# EAGLE library part 690368192272 (library Wurth_Connectors_WR-MM)
WR-MM Female Angled Connector with Latch & w. Polarization KIND PROPERTIES: Pitch 2.54 mm Gender:Female MATERIAL PROPERTIES: Insulator Material:PBT Insulator Flammability Rating UL94 V-0 Insulator Color:Red Contact Material :Phosphor Bronze Contact Plating :Mat Tin over Nickel Contact Type: Stamped GENERAL PROPERTIES: Operating Temperature:-40 °C up to +105 °C Compliance Lead free / RoHS ELECTRICAL PROPERTIES: Working Voltage 100 V (AC) Withstanding Voltage:500 V (AC) Contact Resistance: 10 mΩ Insulation Resistance:1000 MΩ PACKAGING PROPERTIES: cULus Approval:E323964 Packaging :Tube <https://katalog.we-online.com/media/images/v2/o33164v209%20Family_WR-MM_69036819xx72.jpg> Details see: web1:https://katalog.we-online.com/en/em/MM_1_27_FEMALE_ANGLED_CONNECTOR_WITH_LATCH_AND_POLARIZATION_69036819XX72_2 web2:https://katalog.we-online.com/en/em/MM_1_27_FEMALE_ANGLED_CONNECTOR_WITH_LATCH_AND_POLARIZATION_69036819XX72 Updated by Ella Wu 2020-07-06 2020 (C) Würth Elektronik
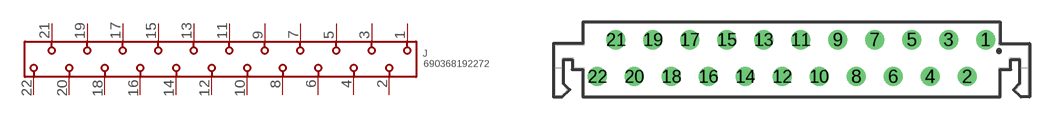
[diagram p108: symbol with the pads of 690368192272; footprint 690368192272]

Designator prefix J

## 690368192272 (DATASHEET-URL: https://www.we-online.com/catalog/datasheet/690368192272.pdf; GENDER: Female; IR: 1.5A; PACKAGING: Tube; PART-NUMBER: 690368192272; PINS: 22; PITCH: 2.54; TYPE: Angled; VALUE: 690368192272)  [690368192272]
1  1  pas
2  2  pas
3  3  pas
4  4  pas
5  5  pas
6  6  pas
7  7  pas
8  8  pas
9  9  pas
10  10  pas
11  11  pas
12  12  pas
13  13  pas
14  14  pas
15  15  pas
16  16  pas
17  17  pas
18  18  pas
19  19  pas
20  20  pas
21  21  pas
22  22  pas

## Footprint 690368192272 (pad centres in mm)
WR-MM Female Angled Connector with Latch & w. Polarization, 22 Pins
drill 0.8: 1 13.335,1.27; 2 12.065,-1.27; 3 10.795,1.27; 4 9.525,-1.27; 5 8.255,1.27; 6 6.985,-1.27; 7 5.715,1.27; 8 4.445,-1.27; 9 3.175,1.27; 10 1.905,-1.27; 11 0.635,1.27; 12 -0.635,-1.27; 13 -1.905,1.27; 14 -3.175,-1.27; 15 -4.445,1.27; 16 -5.715,-1.27; 17 -6.985,1.27; 18 -8.255,-1.27; 19 -9.525,1.27; 20 -10.795,-1.27; 21 -12.065,1.27; 22 -13.335,-1.27